# EAGLE library part DCPOWERCONV (library astropipower)
Unbranded 9V / 12V/ 19V to 3.3V/ 5V DC-DC Step Down Buck Power Supply Module 3A
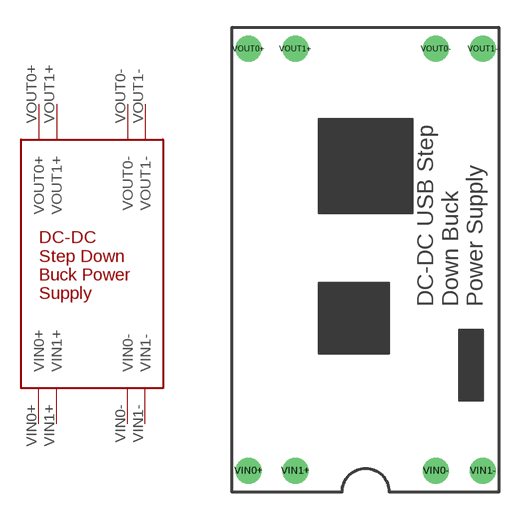
[diagram p0: symbol with the pads of DCPOWERCONV; footprint DCPOWERCONV]

Designator prefix -

## DCPOWERCONV  [DCPOWERCONV]
VIN0+  VIN0+
VIN0-  VIN0-
VIN1+  VIN1+
VIN1-  VIN1-
VOUT0+  VOUT0+
VOUT0-  VOUT0-
VOUT1+  VOUT1+
VOUT1-  VOUT1-

## Footprint DCPOWERCONV (pad centres in mm)
drill 0.9: VIN0+ -6.35,-11.43; VIN0- 3.81,-11.43; VIN1+ -3.81,-11.43; VIN1- 6.35,-11.43; VOUT0+ -6.35,11.43; VOUT0- 3.81,11.43; VOUT1+ -3.81,11.43; VOUT1- 6.35,11.43